# Altium schematic symbol library NMOS_Fairchild_FDV301.SchLib: 1 symbol
Pins are listed as number, name and electrical type; pins without a type are passive.

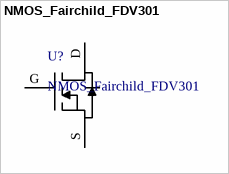
[diagram p0: symbol NMOS_Fairchild_FDV301]

## NMOS_Fairchild_FDV301
designator U?
pins: D, G, S